# Altium schematic symbol library Crystall Oscillator.Schlib: 1 symbol
Pins are listed as number, name and electrical type; pins without a type are passive.

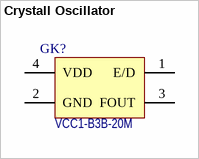
[diagram p0: symbol Crystall Oscillator]

## Crystall Oscillator
designator GK?, comment Наименование: VCC1-B3B-20M  (hidden comment: VCC1)
Назначение: Кварцевый генератор 7x5мм 20 МГц; Потребление, Вт: 0,01
footprint 5x7 Crystall Oscillatior
pins: 1 E/D "Enable/~Disable", 2 GND, 3 FOUT, 4 VDD